# EAGLE library part CY8C29466 (library CypressPSoC_0.30)
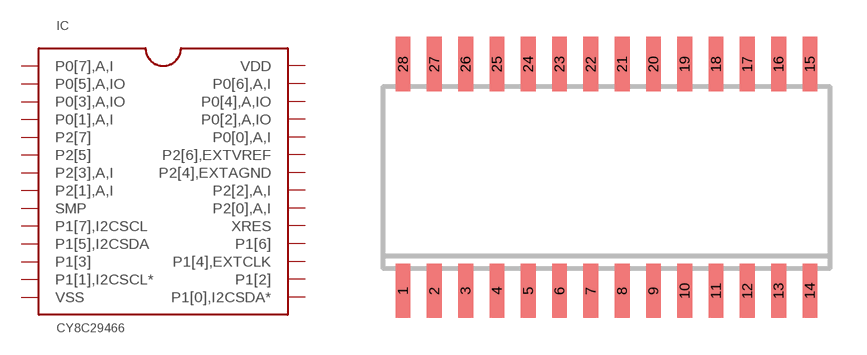
[diagram p6: symbol with the pads of SO28W; footprint SO28W]

Designator prefix IC

## CY8C29466_SO20  [SO28W]
1  P0[7],A,I
2  P0[5],A,IO
3  P0[3],A,IO
4  P0[1],A,I
5  P2[7]
6  P2[5]
7  P2[3],A,I
8  P2[1],A,I
9  SMP  pwr
10  P1[7],I2CSCL
11  P1[5],I2CSDA
12  P1[3]
13  P1[1],I2CSCL*
14  VSS  pwr
15  P1[0],I2CSDA*
16  P1[2]
17  P1[4],EXTCLK
18  P1[6]
19  XRES
20  P2[0],A,I
21  P2[2],A,I
22  P2[4],EXTAGND
23  P2[6],EXTVREF
24  P0[0],A,I
25  P0[2],A,IO
26  P0[4],A,IO
27  P0[6],A,I
28  VDD  pwr

## Footprint SO28W (pad centres in mm)
SMALL OUTLINE INTEGRATED CIRCUIT wide body 7.5 mm/JEDEC MO-119AB
smd 0.6 x 2.2: 1 -8.255,-4.6; 2 -6.985,-4.6; 3 -5.715,-4.6; 4 -4.445,-4.6; 5 -3.175,-4.6; 6 -1.905,-4.6; 7 -0.635,-4.6; 8 0.635,-4.6; 9 1.905,-4.6; 10 3.175,-4.6; 11 4.445,-4.6; 12 5.715,-4.6; 13 6.985,-4.6; 14 8.255,-4.6; 15 8.255,4.6; 16 6.985,4.6; 17 5.715,4.6; 18 4.445,4.6; 19 3.175,4.6; 20 1.905,4.6; 21 0.635,4.6; 22 -0.635,4.6; 23 -1.905,4.6; 24 -3.175,4.6; 25 -4.445,4.6; 26 -5.715,4.6; 27 -6.985,4.6; 28 -8.255,4.6